# EAGLE library part VIPER01 (library Bauteile)
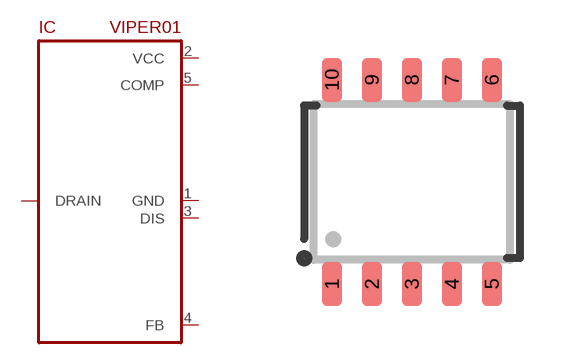
[diagram p182: symbol with the pads of SSOP10; footprint SSOP10]

Designator prefix IC

## VIPER01  [SSOP10]
1  GND
2  VCC
3  DIS
4  FB
5  COMP
6  DRAIN
7  DRAIN
8  DRAIN
9  DRAIN
10  DRAIN

## Footprint SSOP10 (pad centres in mm)
smd 0.51 x 1.1: 1 -2,-2.55; 2 -1,-2.55; 3 0,-2.55; 4 1,-2.55; 5 2,-2.55; 6 2,2.55; 7 1,2.55; 8 0,2.55; 9 -1,2.55; 10 -2,2.55